# Altium schematic symbol library Modules.SchLib: 11 symbols
Pins are listed as number, name and electrical type; pins without a type are passive.

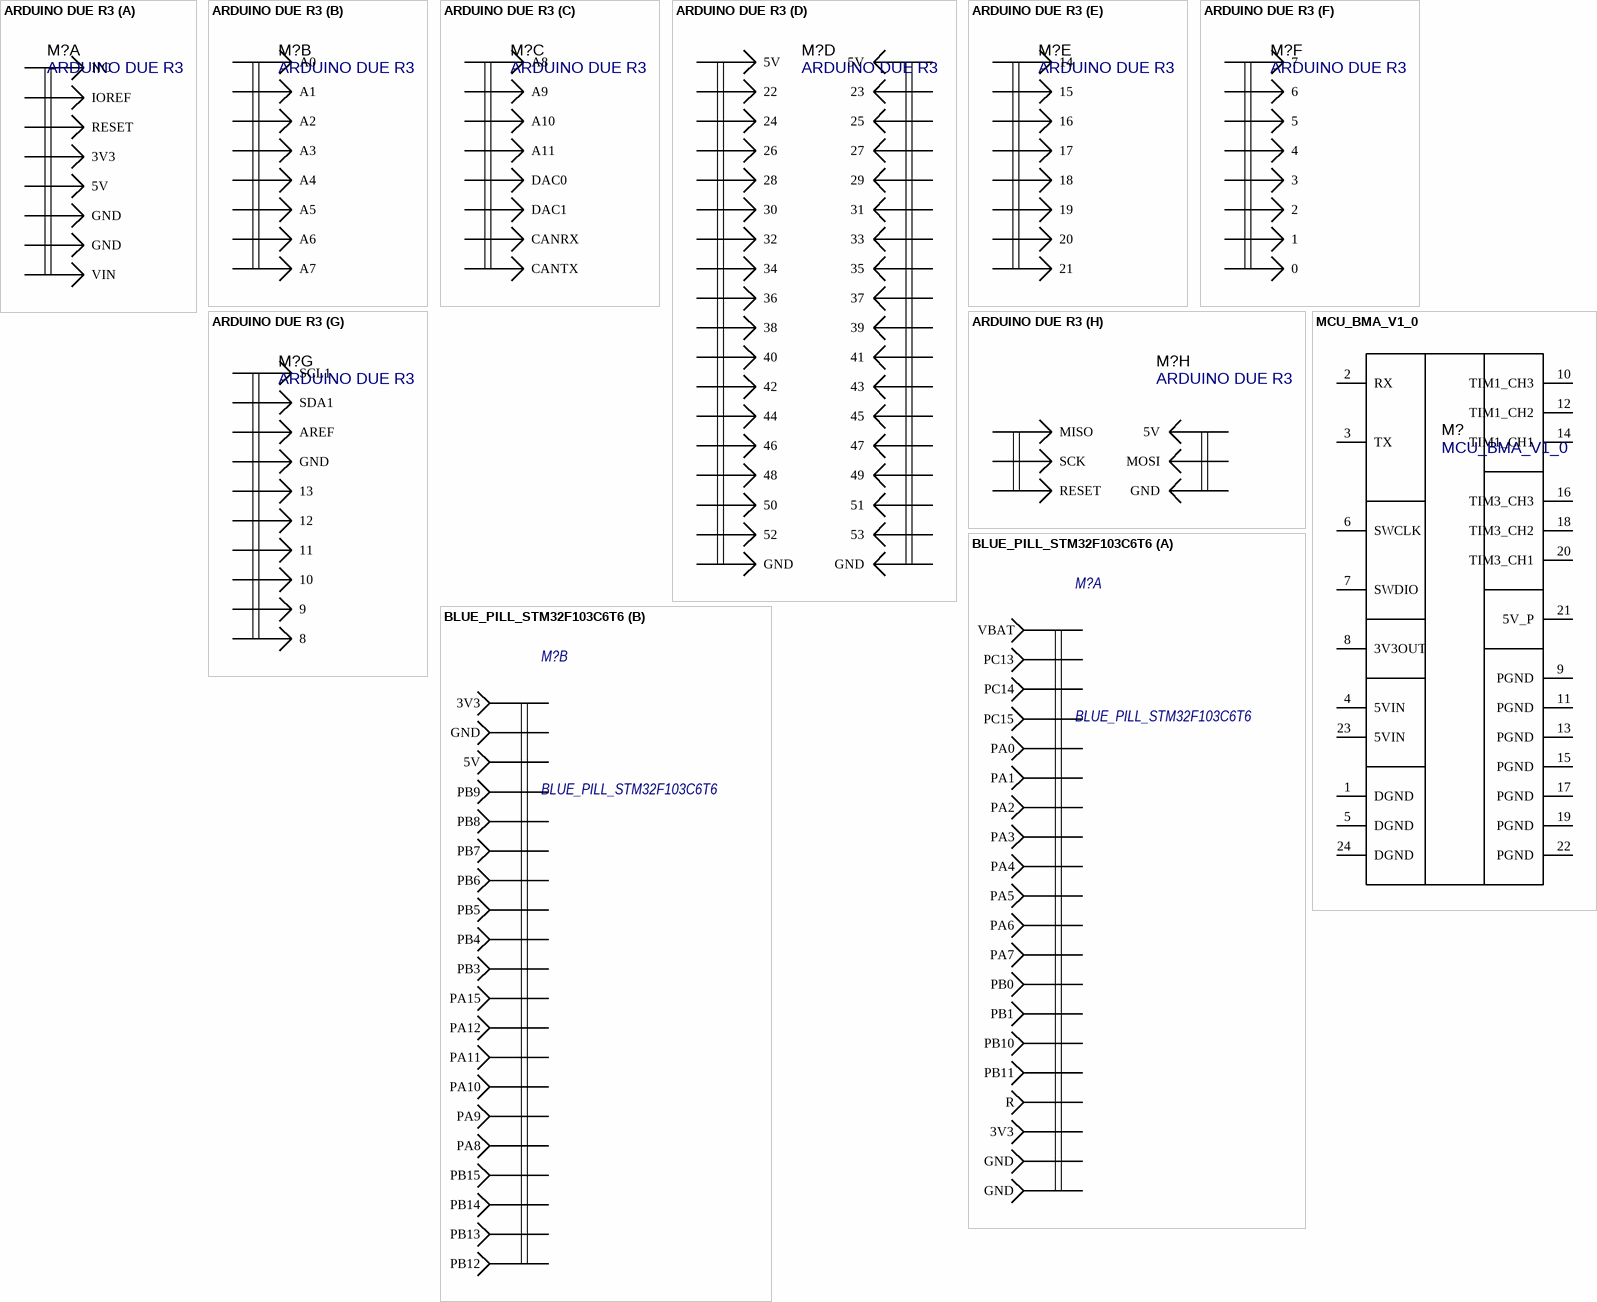
[diagram p0: symbols ARDUINO DUE R3 to MCU_BMA_V1_0]

## ARDUINO DUE R3
designator M?
footprint ARDUINO DUE R3
part A pins: 3V3, 5V, GND, GND, IOREF, NC, RESET, VIN
part B pins: A0, A1, A2, A3, A4, A5, A6, A7
part C pins: A8, A9, A10, A11, CANRX, CANTX, DAC0, DAC1
part D pins: 5V, 5V 23, 22 25, 23 27, 24 29, 25 31, 26 33, 27 35, 28 37, 29 39, 30 41, 31 43, 32 45, 33 47, 34 49, 35 51, 36 53, 37 GND, 38 GND, 39 52, 40 50, 41 48, 42 46, 43 44, 44 42, 45 40, 46 38, 47 36, 48 34, 49 32, 50 30, 51 28, 52 26, 53 24, GND 22, GND 5V
part E pins: 14, 15, 16, 17, 18, 19, 20, 21
part F pins: 0, 1, 2, 3, 4, 5, 6, 7
part G pins: 8, 9, 10, 11, 12, 13, AREF, GND, SCL1, SDA1
part H pins: 5V, GND, MISO, MOSI, RESET, SCK

## BLUE_PILL_STM32F103C6T6
designator M?
Part Number: BLUE_PILL_STM32F103C6T6; Type: -; ComponentLink1Description: Datasheet; Manufacturer: -
footprint BLUE_PILL_STM32F103C6T6 (Footprint not found)
part A pins: 3V3, GND, GND, PA0, PA1, PA2, PA3, PA4, PA5, PA6, PA7, PB0, PB1, PB10, PB11, PC13, PC14, PC15, R, VBAT
part B pins: 3V3, 5V, GND, PA8, PA9, PA10, PA11, PA12, PA15, PB3, PB4, PB5, PB6, PB7, PB8, PB9, PB12, PB13, PB14, PB15

## MCU_BMA_V1_0
designator M?
MCU_BMA_V1_0, user module; Type: User
footprint MCU_BMA_V1_0
pins: 1 DGND, 2 RX, 3 TX, 4 5VIN, 5 DGND, 6 SWCLK, 7 SWDIO, 8 3V3OUT, 9 PGND, 10 TIM1_CH3, 11 PGND, 12 TIM1_CH2, 13 PGND, 14 TIM1_CH1, 15 PGND, 16 TIM3_CH3, 17 PGND, 18 TIM3_CH2, 19 PGND, 20 TIM3_CH1, 21 5V_P, 22 PGND, 23 5VIN, 24 DGND

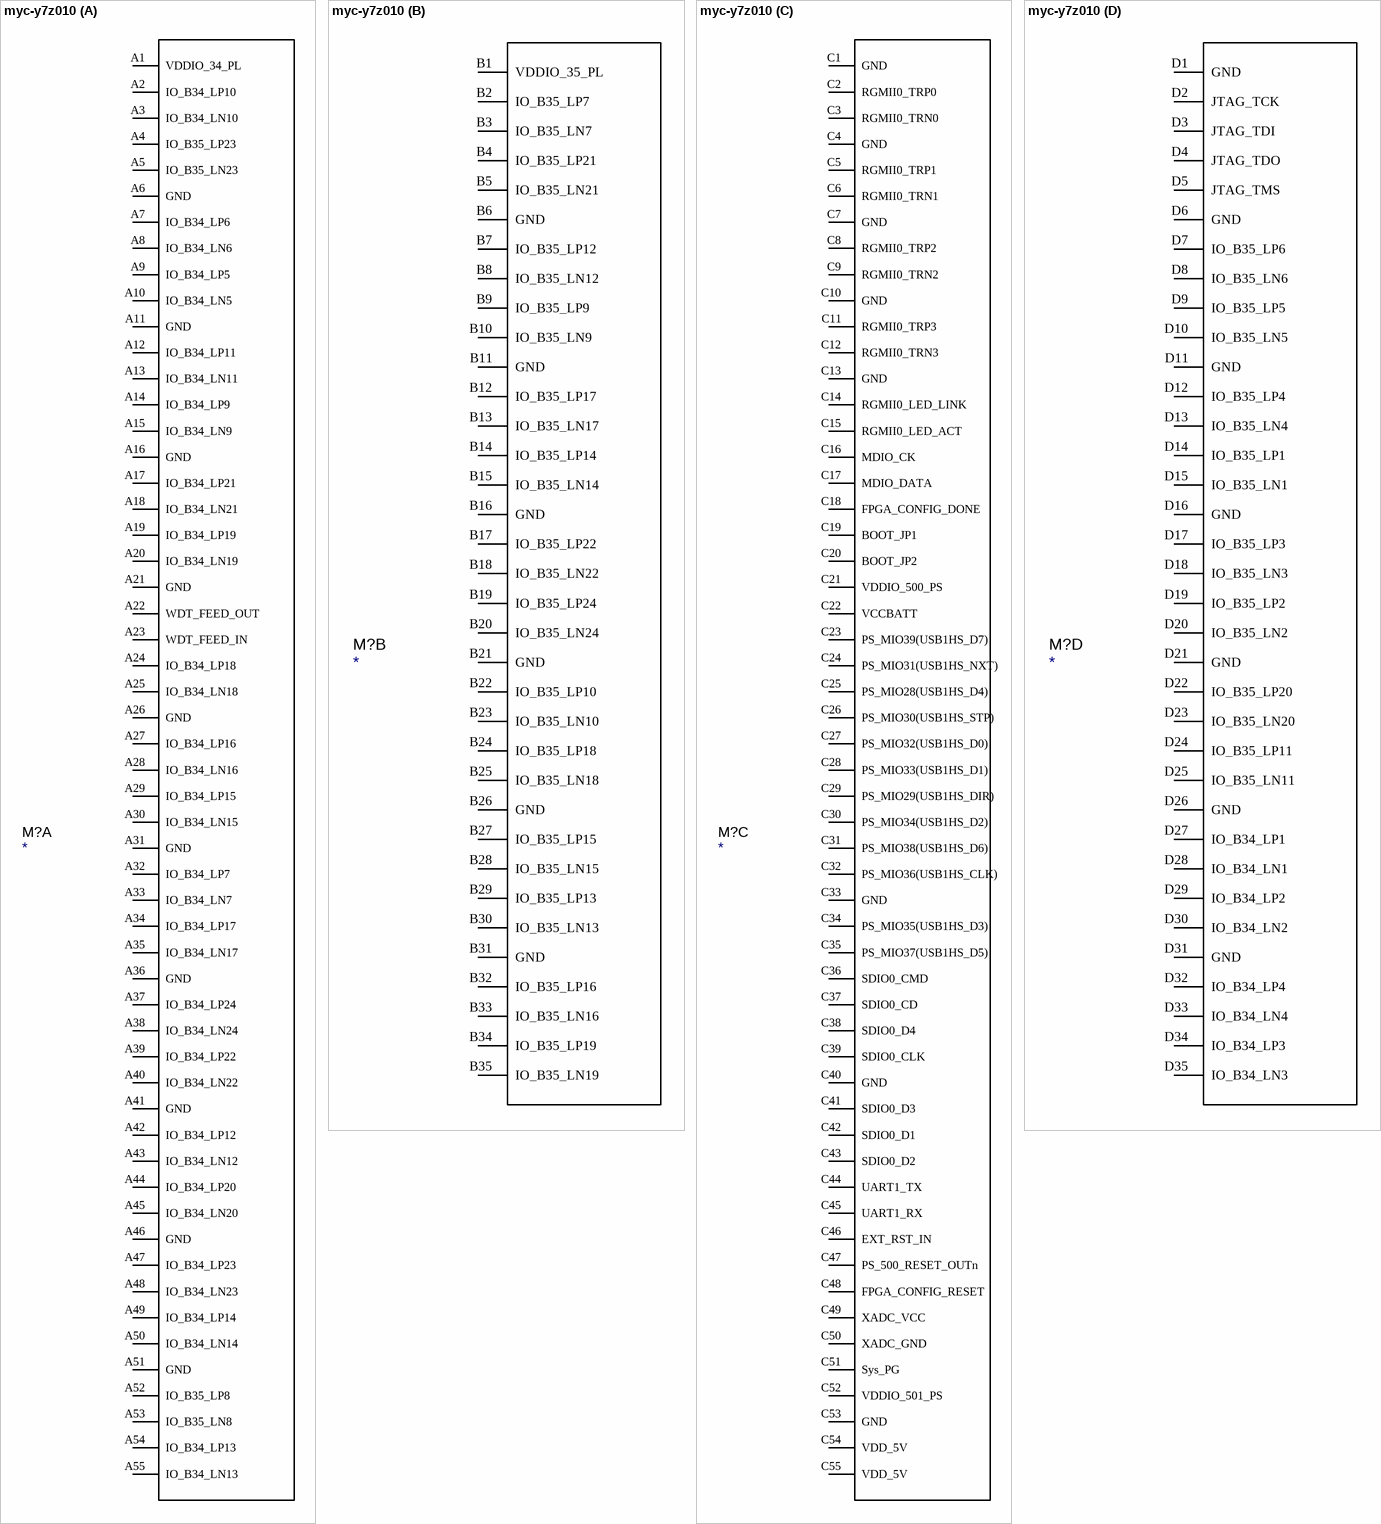
[diagram p1: symbol myc-y7z010]

## myc-y7z010
designator M?
SoM; Manufacturer: Xilinx; Part Number: myc-y7z010; Type: FPGA
footprint myc-y7z010
part A pins: A1 VDDIO_34_PL, A2 IO_B34_LP10, A3 IO_B34_LN10, A4 IO_B35_LP23, A5 IO_B35_LN23, A6 GND, A7 IO_B34_LP6, A8 IO_B34_LN6, A9 IO_B34_LP5, A10 IO_B34_LN5, A11 GND, A12 IO_B34_LP11, A13 IO_B34_LN11, A14 IO_B34_LP9, A15 IO_B34_LN9, A16 GND, A17 IO_B34_LP21, A18 IO_B34_LN21, A19 IO_B34_LP19, A20 IO_B34_LN19, A21 GND, A22 WDT_FEED_OUT, A23 WDT_FEED_IN, A24 IO_B34_LP18, A25 IO_B34_LN18, A26 GND, A27 IO_B34_LP16, A28 IO_B34_LN16, A29 IO_B34_LP15, A30 IO_B34_LN15, A31 GND, A32 IO_B34_LP7, A33 IO_B34_LN7, A34 IO_B34_LP17, A35 IO_B34_LN17, A36 GND, A37 IO_B34_LP24, A38 IO_B34_LN24, A39 IO_B34_LP22, A40 IO_B34_LN22, A41 GND, A42 IO_B34_LP12, A43 IO_B34_LN12, A44 IO_B34_LP20, A45 IO_B34_LN20, A46 GND, A47 IO_B34_LP23, A48 IO_B34_LN23, A49 IO_B34_LP14, A50 IO_B34_LN14, A51 GND, A52 IO_B35_LP8, A53 IO_B35_LN8, A54 IO_B34_LP13, A55 IO_B34_LN13
part B pins: B1 VDDIO_35_PL, B2 IO_B35_LP7, B3 IO_B35_LN7, B4 IO_B35_LP21, B5 IO_B35_LN21, B6 GND, B7 IO_B35_LP12, B8 IO_B35_LN12, B9 IO_B35_LP9, B10 IO_B35_LN9, B11 GND, B12 IO_B35_LP17, B13 IO_B35_LN17, B14 IO_B35_LP14, B15 IO_B35_LN14, B16 GND, B17 IO_B35_LP22, B18 IO_B35_LN22, B19 IO_B35_LP24, B20 IO_B35_LN24, B21 GND, B22 IO_B35_LP10, B23 IO_B35_LN10, B24 IO_B35_LP18, B25 IO_B35_LN18, B26 GND, B27 IO_B35_LP15, B28 IO_B35_LN15, B29 IO_B35_LP13, B30 IO_B35_LN13, B31 GND, B32 IO_B35_LP16, B33 IO_B35_LN16, B34 IO_B35_LP19, B35 IO_B35_LN19
part C pins: C1 GND, C2 RGMII0_TRP0, C3 RGMII0_TRN0, C4 GND, C5 RGMII0_TRP1, C6 RGMII0_TRN1, C7 GND, C8 RGMII0_TRP2, C9 RGMII0_TRN2, C10 GND, C11 RGMII0_TRP3, C12 RGMII0_TRN3, C13 GND, C14 RGMII0_LED_LINK, C15 RGMII0_LED_ACT, C16 MDIO_CK, C17 MDIO_DATA, C18 FPGA_CONFIG_DONE, C19 BOOT_JP1, C20 BOOT_JP2, C21 VDDIO_500_PS, C22 VCCBATT, C23 PS_MIO39(USB1HS_D7), C24 PS_MIO31(USB1HS_NXT), C25 PS_MIO28(USB1HS_D4), C26 PS_MIO30(USB1HS_STP), C27 PS_MIO32(USB1HS_D0), C28 PS_MIO33(USB1HS_D1), C29 PS_MIO29(USB1HS_DIR), C30 PS_MIO34(USB1HS_D2), C31 PS_MIO38(USB1HS_D6), C32 PS_MIO36(USB1HS_CLK), C33 GND, C34 PS_MIO35(USB1HS_D3), C35 PS_MIO37(USB1HS_D5), C36 SDIO0_CMD, C37 SDIO0_CD, C38 SDIO0_D4, C39 SDIO0_CLK, C40 GND, C41 SDIO0_D3, C42 SDIO0_D1, C43 SDIO0_D2, C44 UART1_TX, C45 UART1_RX, C46 EXT_RST_IN, C47 PS_500_RESET_OUTn, C48 FPGA_CONFIG_RESET, C49 XADC_VCC, C50 XADC_GND, C51 Sys_PG, C52 VDDIO_501_PS, C53 GND, C54 VDD_5V, C55 VDD_5V
part D pins: D1 GND, D2 JTAG_TCK, D3 JTAG_TDI, D4 JTAG_TDO, D5 JTAG_TMS, D6 GND, D7 IO_B35_LP6, D8 IO_B35_LN6, D9 IO_B35_LP5, D10 IO_B35_LN5, D11 GND, D12 IO_B35_LP4, D13 IO_B35_LN4, D14 IO_B35_LP1, D15 IO_B35_LN1, D16 GND, D17 IO_B35_LP3, D18 IO_B35_LN3, D19 IO_B35_LP2, D20 IO_B35_LN2, D21 GND, D22 IO_B35_LP20, D23 IO_B35_LN20, D24 IO_B35_LP11, D25 IO_B35_LN11, D26 GND, D27 IO_B34_LP1, D28 IO_B34_LN1, D29 IO_B34_LP2, D30 IO_B34_LN2, D31 GND, D32 IO_B34_LP4, D33 IO_B34_LN4, D34 IO_B34_LP3, D35 IO_B34_LN3

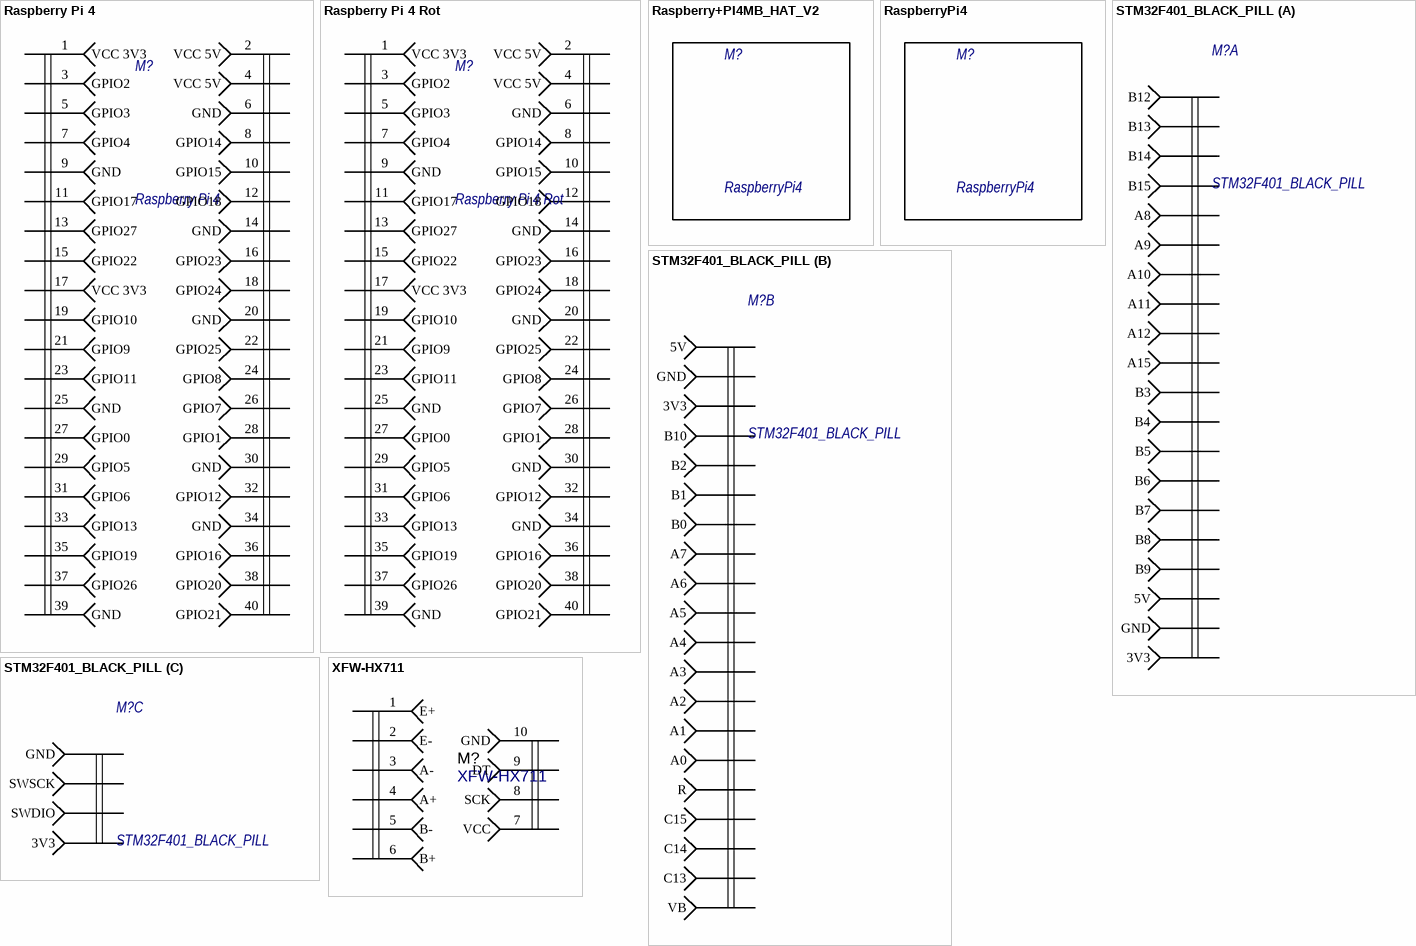
[diagram p2: symbols Raspberry Pi 4 to XFW-HX711]

## Raspberry Pi 4
designator M?
Part Number: Raspberry Pi 4; Type: Module; ComponentLink1Description: Datasheet; Manufacturer: Raspberry
footprint Raspberry Pi 4 (Footprint not found)
pins: 1 VCC 3V3, 2 VCC 5V, 3 GPIO2, 4 VCC 5V, 5 GPIO3, 6 GND, 7 GPIO4, 8 GPIO14, 9 GND, 10 GPIO15, 11 GPIO17, 12 GPIO18, 13 GPIO27, 14 GND, 15 GPIO22, 16 GPIO23, 17 VCC 3V3, 18 GPIO24, 19 GPIO10, 20 GND, 21 GPIO9, 22 GPIO25, 23 GPIO11, 24 GPIO8, 25 GND, 26 GPIO7, 27 GPIO0, 28 GPIO1, 29 GPIO5, 30 GND, 31 GPIO6, 32 GPIO12, 33 GPIO13, 34 GND, 35 GPIO19, 36 GPIO16, 37 GPIO26, 38 GPIO20, 39 GND, 40 GPIO21

## Raspberry Pi 4 Rot
designator M?
Part Number: Raspberry Pi 4 Rot; Type: Module; ComponentLink1Description: Datasheet; Manufacturer: Raspberry
footprint Raspberry Pi 4 Rot
pins: 1 VCC 3V3, 2 VCC 5V, 3 GPIO2, 4 VCC 5V, 5 GPIO3, 6 GND, 7 GPIO4, 8 GPIO14, 9 GND, 10 GPIO15, 11 GPIO17, 12 GPIO18, 13 GPIO27, 14 GND, 15 GPIO22, 16 GPIO23, 17 VCC 3V3, 18 GPIO24, 19 GPIO10, 20 GND, 21 GPIO9, 22 GPIO25, 23 GPIO11, 24 GPIO8, 25 GND, 26 GPIO7, 27 GPIO0, 28 GPIO1, 29 GPIO5, 30 GND, 31 GPIO6, 32 GPIO12, 33 GPIO13, 34 GND, 35 GPIO19, 36 GPIO16, 37 GPIO26, 38 GPIO20, 39 GND, 40 GPIO21

## Raspberry+PI4MB_HAT_V2
designator M?, comment RaspberryPi4
Raspberry+PI4MB_HAT_V2; Part Number: RaspberryPi4; Type: User; ComponentLink1Description: Datasheet; Manufacturer: Raspberry
footprint Raspberry+PI4MB_HAT_V2

## RaspberryPi4
designator M?
Raspberry+HAT; Part Number: RaspberryPi4; Type: User; ComponentLink1Description: Datasheet; Manufacturer: Raspberry
footprint Raspberry+HAT

## STM32F401_BLACK_PILL
designator M?
Part Number: STM32F401_BLACK_PILL; Type: -; ComponentLink1Description: Datasheet; Manufacturer: -
footprint STM32F401_BLACK_PILL
part A pins: 3V3, 5V, A8, A9, A10, A11, A12, A15, B3, B4, B5, B6, B7, B8, B9, B12, B13, B14, B15, GND
part B pins: 3V3, 5V, A0, A1, A2, A3, A4, A5, A6, A7, B0, B1, B2, B10, C13, C14, C15, GND, R, VB
part C pins: 3V3, GND, SWDIO, SWSCK

## XFW-HX711
designator M?
footprint XFW-HX711 (Footprint not found)
pins: 1 E+, 2 E-, 3 A-, 4 A+, 5 B-, 6 B+, 7 VCC, 8 SCK, 9 DT, 10 GND

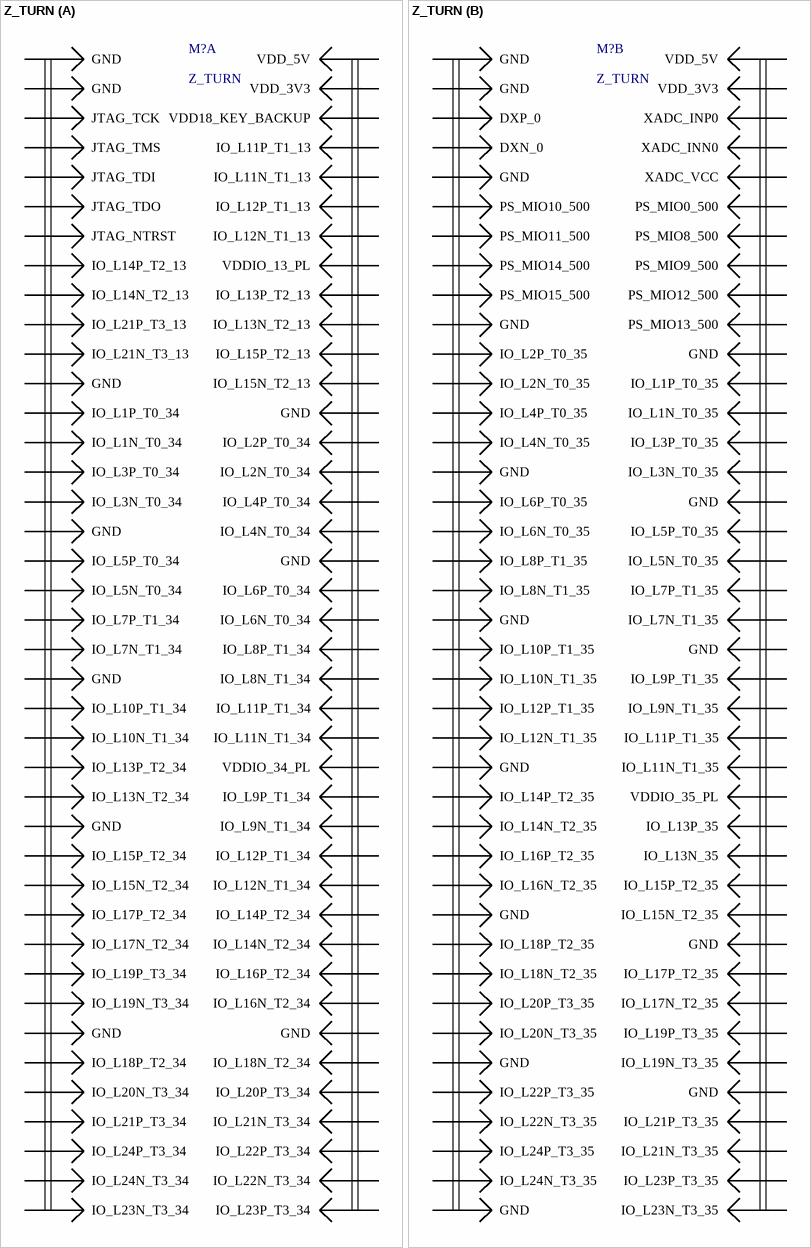
[diagram p3: symbol Z_TURN]

## Z_TURN
designator M?
Part Number: DS1031-08-2x40P8BS42XB-3A
footprint Z_TURN
part A pins: CN1_1 VDD_5V, CN1_2 GND, CN1_3 VDD_3V3, CN1_4 GND, CN1_5 VDD18_KEY_BACKUP, CN1_6 JTAG_TCK, CN1_7 IO_L11P_T1_13, CN1_8 JTAG_TMS, CN1_9 IO_L11N_T1_13, CN1_10 JTAG_TDI, CN1_11 IO_L12P_T1_13, CN1_12 JTAG_TDO, CN1_13 IO_L12N_T1_13, CN1_14 JTAG_NTRST, CN1_15 VDDIO_13_PL, CN1_16 IO_L14P_T2_13, CN1_17 IO_L13P_T2_13, CN1_18 IO_L14N_T2_13, CN1_19 IO_L13N_T2_13, CN1_20 IO_L21P_T3_13, CN1_21 IO_L15P_T2_13, CN1_22 IO_L21N_T3_13, CN1_23 IO_L15N_T2_13, CN1_24 GND, CN1_25 GND, CN1_26 IO_L1P_T0_34, CN1_27 IO_L2P_T0_34, CN1_28 IO_L1N_T0_34, CN1_29 IO_L2N_T0_34, CN1_30 IO_L3P_T0_34, CN1_31 IO_L4P_T0_34, CN1_32 IO_L3N_T0_34, CN1_33 IO_L4N_T0_34, CN1_34 GND, CN1_35 GND, CN1_36 IO_L5P_T0_34, CN1_37 IO_L6P_T0_34, CN1_38 IO_L5N_T0_34, CN1_39 IO_L6N_T0_34, CN1_40 IO_L7P_T1_34, CN1_41 IO_L8P_T1_34, CN1_42 IO_L7N_T1_34, CN1_43 IO_L8N_T1_34, CN1_44 GND, CN1_45 IO_L11P_T1_34, CN1_46 IO_L10P_T1_34, CN1_47 IO_L11N_T1_34, CN1_48 IO_L10N_T1_34, CN1_49 VDDIO_34_PL, CN1_50 IO_L13P_T2_34, CN1_51 IO_L9P_T1_34, CN1_52 IO_L13N_T2_34, CN1_53 IO_L9N_T1_34, CN1_54 GND, CN1_55 IO_L12P_T1_34, CN1_56 IO_L15P_T2_34, CN1_57 IO_L12N_T1_34, CN1_58 IO_L15N_T2_34, CN1_59 IO_L14P_T2_34, CN1_60 IO_L17P_T2_34, CN1_61 IO_L14N_T2_34, CN1_62 IO_L17N_T2_34, CN1_63 IO_L16P_T2_34, CN1_64 IO_L19P_T3_34, CN1_65 IO_L16N_T2_34, CN1_66 IO_L19N_T3_34, CN1_67 GND, CN1_68 GND, CN1_69 IO_L18N_T2_34, CN1_70 IO_L18P_T2_34, CN1_71 IO_L20P_T3_34, CN1_72 IO_L20N_T3_34, CN1_73 IO_L21N_T3_34, CN1_74 IO_L21P_T3_34, CN1_75 IO_L22P_T3_34, CN1_76 IO_L24P_T3_34, CN1_77 IO_L22N_T3_34, CN1_78 IO_L24N_T3_34, CN1_79 IO_L23P_T3_34, CN1_80 IO_L23N_T3_34
part B pins: CN2_1 VDD_5V, CN2_2 GND, CN2_3 VDD_3V3, CN2_4 GND, CN2_5 XADC_INP0, CN2_6 DXP_0, CN2_7 XADC_INN0, CN2_8 DXN_0, CN2_9 XADC_VCC, CN2_10 GND, CN2_11 PS_MIO0_500, CN2_12 PS_MIO10_500, CN2_13 PS_MIO8_500, CN2_14 PS_MIO11_500, CN2_15 PS_MIO9_500, CN2_16 PS_MIO14_500, CN2_17 PS_MIO12_500, CN2_18 PS_MIO15_500, CN2_19 PS_MIO13_500, CN2_20 GND, CN2_21 GND, CN2_22 IO_L2P_T0_35, CN2_23 IO_L1P_T0_35, CN2_24 IO_L2N_T0_35, CN2_25 IO_L1N_T0_35, CN2_26 IO_L4P_T0_35, CN2_27 IO_L3P_T0_35, CN2_28 IO_L4N_T0_35, CN2_29 IO_L3N_T0_35, CN2_30 GND, CN2_31 GND, CN2_32 IO_L6P_T0_35, CN2_33 IO_L5P_T0_35, CN2_34 IO_L6N_T0_35, CN2_35 IO_L5N_T0_35, CN2_36 IO_L8P_T1_35, CN2_37 IO_L7P_T1_35, CN2_38 IO_L8N_T1_35, CN2_39 IO_L7N_T1_35, CN2_40 GND, CN2_41 GND, CN2_42 IO_L10P_T1_35, CN2_43 IO_L9P_T1_35, CN2_44 IO_L10N_T1_35, CN2_45 IO_L9N_T1_35, CN2_46 IO_L12P_T1_35, CN2_47 IO_L11P_T1_35, CN2_48 IO_L12N_T1_35, CN2_49 IO_L11N_T1_35, CN2_50 GND, CN2_51 VDDIO_35_PL, CN2_52 IO_L14P_T2_35, CN2_53 IO_L13P_35, CN2_54 IO_L14N_T2_35, CN2_55 IO_L13N_35, CN2_56 IO_L16P_T2_35, CN2_57 IO_L15P_T2_35, CN2_58 IO_L16N_T2_35, CN2_59 IO_L15N_T2_35, CN2_60 GND, CN2_61 GND, CN2_62 IO_L18P_T2_35, CN2_63 IO_L17P_T2_35, CN2_64 IO_L18N_T2_35, CN2_65 IO_L17N_T2_35, CN2_66 IO_L20P_T3_35, CN2_67 IO_L19P_T3_35, CN2_68 IO_L20N_T3_35, CN2_69 IO_L19N_T3_35, CN2_70 GND, CN2_71 GND, CN2_72 IO_L22P_T3_35, CN2_73 IO_L21P_T3_35, CN2_74 IO_L22N_T3_35, CN2_75 IO_L21N_T3_35, CN2_76 IO_L24P_T3_35, CN2_77 IO_L23P_T3_35, CN2_78 IO_L24N_T3_35, CN2_79 IO_L23N_T3_35, CN2_80 GND